# Altium footprint library SFE-Custom-Footprints.PcbLib: 154 footprints (part 2 of 10)
Each footprint in its own frame and in the unit in brackets; x right, y up, seen from the top. Pads: shape width x height; smd on the part's side, far side on the other; paste and mask are expansions set on the pad; w line width, h text height; cw(c..) or ccw(c..) is an arc to the next point about the centre after c.
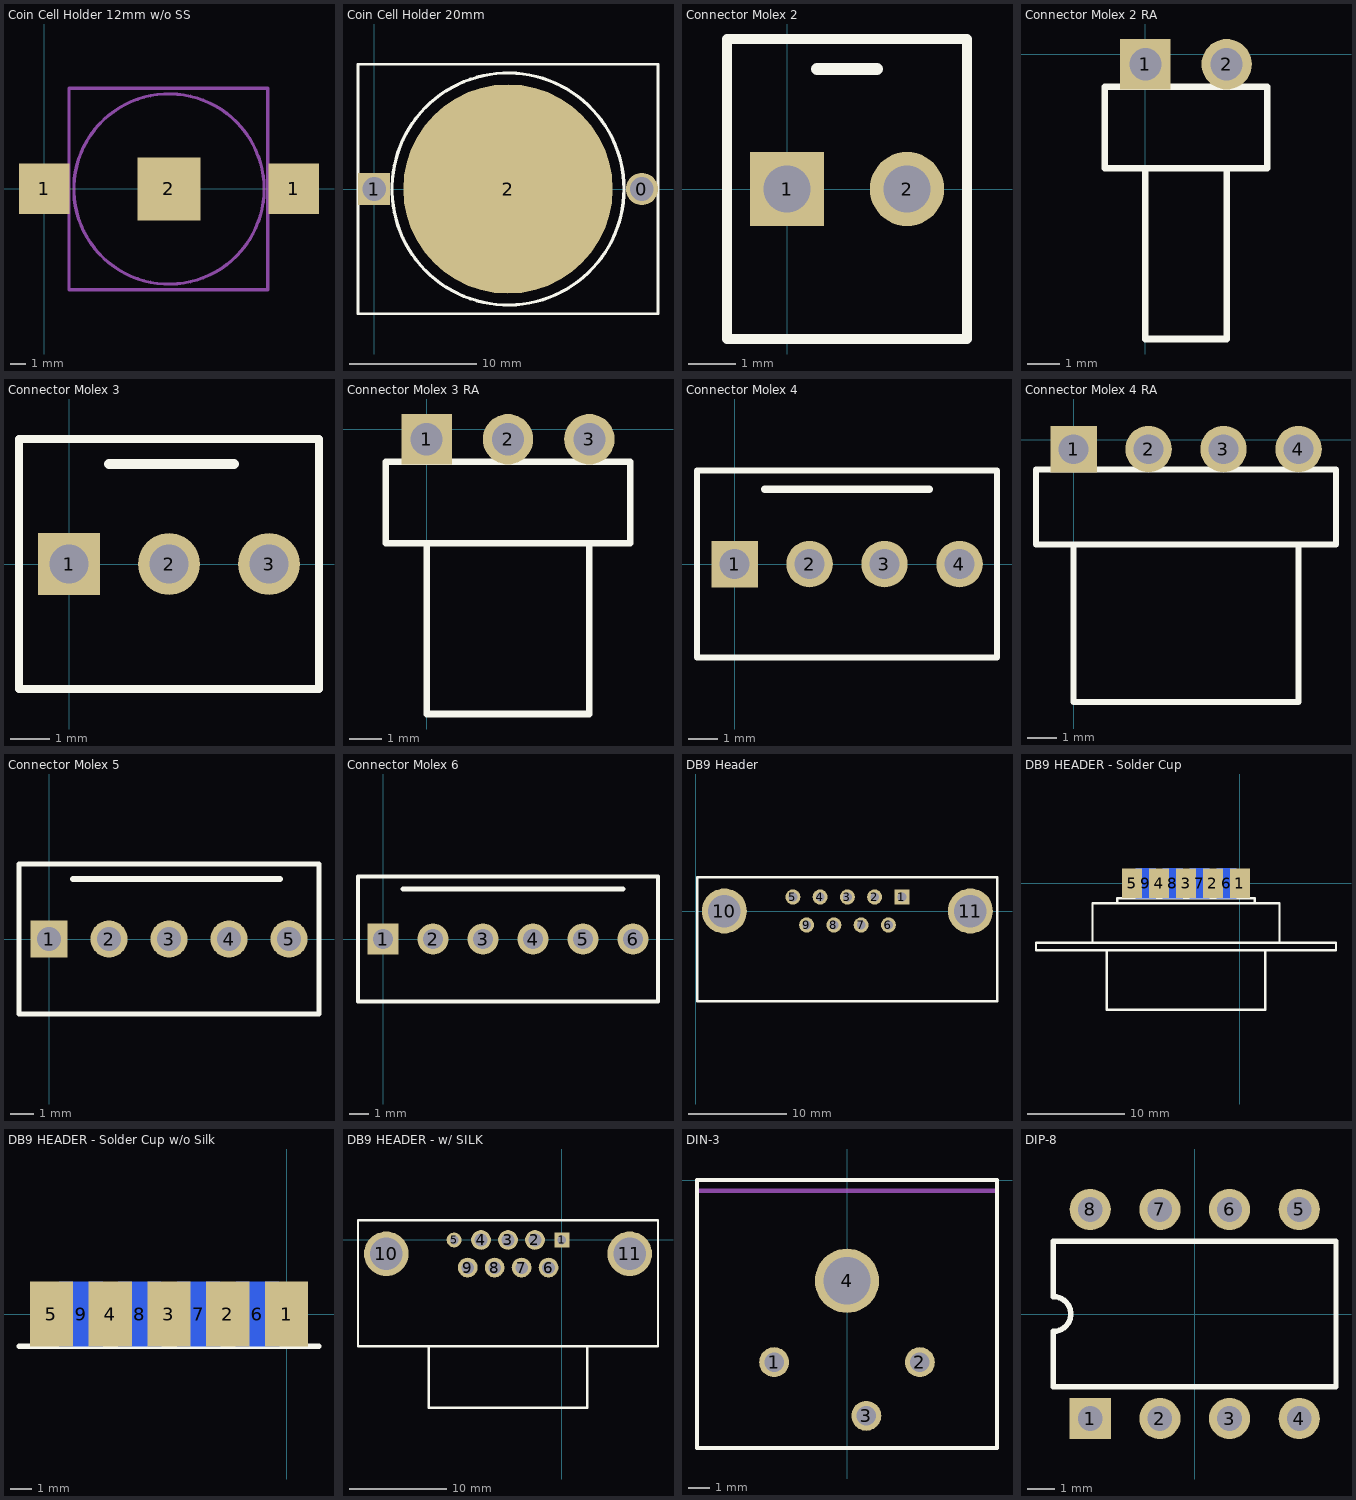
[diagram p1: the footprints below, top view; thin cyan lines are the x and y axes]

## Coin Cell Holder 12mm w/o SS [mil]
pads (3):
  rect 125x125 smd: 1(0,0) 1(619.81,0)
  rect 156x156 smd: 2(309.81,0)
Mechanical 1:
  circle w8: c309.8,-0.2 r236.22
  lines w8: 61.8,-250.19 554.81,-250.19 554.81,249.8 61.8,249.8 61.8,-250.19

## Coin Cell Holder 20mm [mil]
pads (3):
  round 100 hole 73: 0(831,0)
  rect 100x100 hole 73: 1(0,0)
  round 650 smd: 2(415.5,0)
Top Overlay:
  circle w10: c415.5,0 r360
  lines w8: -50,-387.5 881,-387.5 881,387.5 -50,387.5 -50,-387.5

## Connector Molex 2 [mil]
pads (2):
  rect 62x62 hole 39.4: 1(0,0)
  round 62 hole 39.4: 2(100,0)
Top Overlay:
  lines w8: -50,-125 -50,125 150,125 150,-125 -50,-125
  lines w10: 25,100 75,100

## Connector Molex 2 RA [mil]
pads (2):
  rect 62x62 hole 39.4: 1(0,-12.5)
  round 62 hole 39.4: 2(100,-12.5)
Top Overlay:
  lines w8: 0,-140.47 0,-350 100,-350 100,-140.19 ; -50,-140 150,-140 150,-40 -50,-40 -50,-140

## Connector Molex 3 [mil]
pads (3):
  rect 62x62 hole 39.4: 1(0,0)
  round 62 hole 39.4: 2(100,0) 3(200,0)
Top Overlay:
  lines w8: -50,-125 250,-125 250,125 -50,125 -50,-125
  lines w10: 40,100 165,100

## Connector Molex 3 RA [mil]
pads (3):
  rect 62x62 hole 39.4: 1(0,-12.5)
  round 62 hole 39.4: 2(100,-12.5) 3(200,-12.5)
Top Overlay:
  lines w8: 0,-140.47 0,-350 200,-350 200,-140.19 ; -50,-140 -50,-40 250,-40 250,-140 -50,-140

## Connector Molex 4 [mil]
pads (4):
  rect 62x62 hole 39.4: 1(0,0)
  round 62 hole 39.4: 2(100,0) 3(200,0) 4(300,0)
Top Overlay:
  lines w8: -50,-125 -50,125 350,125 350,-125 -50,-125
  lines w10: 40,100 260,100

## Connector Molex 4 RA [mil]
pads (4):
  rect 62x62 hole 39.4: 1(0,-12.5)
  round 62 hole 39.4: 2(100,-12.5) 3(200,-12.5) 4(300,-12.5)
Top Overlay:
  lines w8: 0,-140.47 0,-350 300,-350 300,-140.19 ; -50,-140 350,-140 350,-40 -50,-40 -50,-140

## Connector Molex 5 [mil]
pads (5):
  rect 62x62 hole 39.4: 1(0,0)
  round 62 hole 39.4: 2(100,0) 3(200,0) 4(300,0) 5(400,0)
Top Overlay:
  lines w8: -50,-125 -50,125 450,125 450,-125 -50,-125
  lines w10: 40,100 385,100

## Connector Molex 6 [mil]
pads (6):
  rect 62x62 hole 39.4: 1(0,0)
  round 62 hole 39.4: 2(100,0) 3(200,0) 4(300,0) 5(400,0) 6(500,0)
Top Overlay:
  lines w8: -50,-125 -50,125 550,125 550,-125 -50,-125
  lines w10: 40,100 480,100

## DB9 Header [mil]
pads (11):
  rect 60x60 hole 35: 1(824.5,56)
  round 60 hole 35: 2(715.5,56) 3(606.5,56) 4(497.5,56) 5(388.5,56) 6(770.5,-56) 7(661.5,-56) 8(552.5,-56) 9(443.5,-56)
  round 180 hole 130: 10(114.5,0) 11(1098.5,0)
Top Overlay:
  lines w10: 5,-360 1205,-360 1205,136 5,136 5,-360

## DB9 HEADER - Solder Cup [mil]
pads (9):
  rect 80x120 smd: 1(0,0) 2(-109,0) 3(-218,0) 4(-327,0) 5(-436,0)
  rect 80x120 smd far side: 6(-54,0) 7(-163,0) 8(-272,0) 9(-381,0)
Top Overlay:
  lines w10: -596,-241 -596,-80 160,-80 160,-241 ; -539,-271 -539,-511 103,-511 103,-271 ; -496,-76 -496,-60 60,-60 60,-80 ; -824.5,-271 -824.5,-241 388.5,-241 388.5,-271 -824.5,-271

## DB9 HEADER - Solder Cup w/o Silk [mil]
pads (9):
  rect 80x120 smd: 1(0,0) 2(-109,0) 3(-218,0) 4(-327,0) 5(-436,0)
  rect 80x120 smd far side: 6(-54,0) 7(-163,0) 8(-272,0) 9(-381,0)
Top Overlay:
  lines w10: -496,-60 60,-60

## DB9 HEADER - w/ SILK [mil]
pads (11):
  rect 60x60 hole 35: 1(0,0)
  round 80 hole 51.18: 2(-109,0) 3(-218,0) 4(-327,0) 6(-54,-112) 7(-163,-112) 8(-272,-112) 9(-381,-112)
  round 60 hole 35: 5(-436,0)
  round 180 hole 130: 10(-710,-56) 11(274,-56)
Top Overlay:
  lines w10: -539,-431.9 -539,-679 103,-679 103,-432.3 ; -824.5,-430 388.5,-430 388.5,80 -824.5,80 -824.5,-430

## DIN-3 [mm]
pads (4):
  round 1.4 hole 0.9: 1(-3.4,-8.5) 2(3.4,-8.5) 3(0.9,-11)
  round 3 hole 2.2: 4(0,-4.7)
Top Overlay:
  lines w0.203: -7,-12.5 -7,0 7,0 7,-12.5 -7,-12.5
Mechanical 1:
  lines w0.203: -7,-0.5 7,-0.5

## DIP-8 [mm]
pads (8):
  rect 1.5x1.5 hole 0.9: 1(-3.81,-3.81)
  round 1.5 hole 0.9: 2(-1.27,-3.81) 3(1.27,-3.81) 4(3.81,-3.81) 5(3.81,3.81) 6(1.27,3.81) 7(-1.27,3.81) 8(-3.81,3.81)
Top Overlay:
  lines w0.2: -5.15,-2.65 5.15,-2.65 5.15,2.65 -5.15,2.65 -5.15,0.635 cw(c-5.15,0) -5.15,-0.635 -5.15,-2.65